# EAGLE library part FT2232H (library X893)
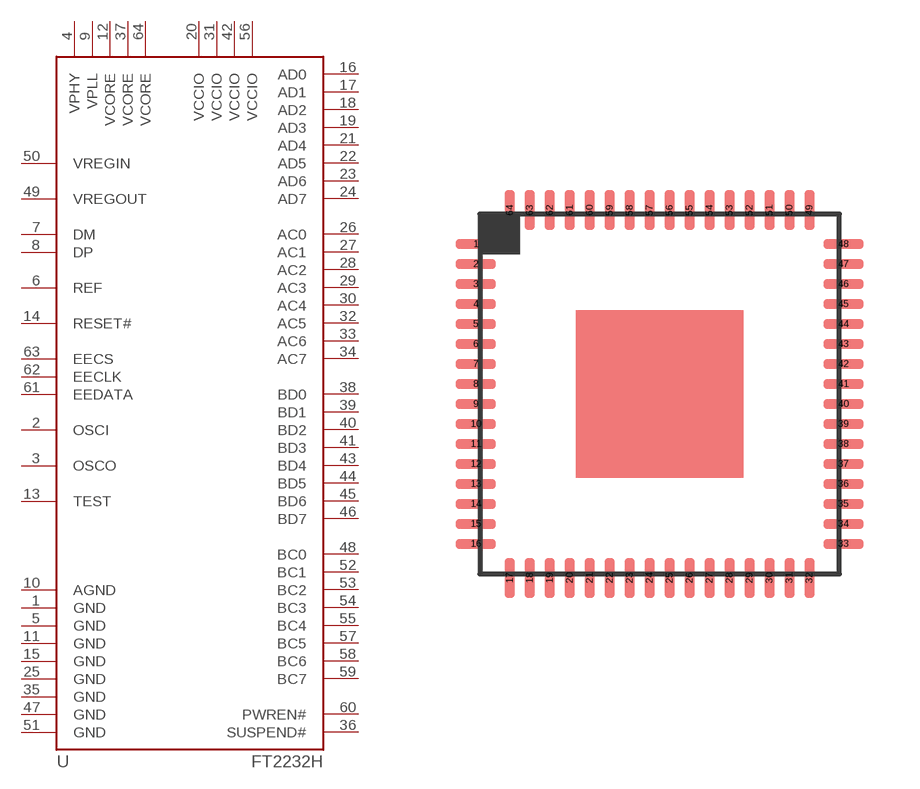
[diagram p100: symbol with the pads of QFN64-9X9; footprint QFN64-9X9]

Designator prefix -

## FT2232HQ  [QFN64-9X9]
1  GND
2  OSCI  in
3  OSCO  out
4  VPHY
5  GND
6  REF  in
7  DM  in
8  DP  in
9  VPLL
10  AGND
11  GND
12  VCORE
13  TEST  in
14  RESET#  in
15  GND
16  AD0
17  AD1
18  AD2
19  AD3
20  VCCIO
21  AD4
22  AD5
23  AD6
24  AD7
25  GND
26  AC0
27  AC1
28  AC2
29  AC3
30  AC4
31  VCCIO
32  AC5
33  AC6
34  AC7
35  GND
36  SUSPEND#  out
37  VCORE
38  BD0
39  BD1
40  BD2
41  BD3
42  VCCIO
43  BD4
44  BD5
45  BD6
46  BD7
47  GND
48  BC0
49  VREGOUT
50  VREGIN
51  GND
52  BC1
53  BC2
54  BC3
55  BC4
56  VCCIO
57  BC5
58  BC6
59  BC7
60  PWREN#  out
61  EEDATA
62  EECLK  out
63  EECS
64  VCORE

## Footprint QFN64-9X9 (pad centres in mm)
smd 1 x 0.25: 1 -4.6,3.75; 2 -4.6,3.25; 3 -4.6,2.75; 4 -4.6,2.25; 5 -4.6,1.75; 6 -4.6,1.25; 7 -4.6,0.75; 8 -4.6,0.25; 9 -4.6,-0.25; 10 -4.6,-0.75; 11 -4.6,-1.25; 12 -4.6,-1.75; 13 -4.6,-2.25; 14 -4.6,-2.75; 15 -4.6,-3.25; 16 -4.6,-3.75; 33 4.6,-3.75; 34 4.6,-3.25; 35 4.6,-2.75; 36 4.6,-2.25; 37 4.6,-1.75; 38 4.6,-1.25; 39 4.6,-0.75; 40 4.6,-0.25; 41 4.6,0.25; 42 4.6,0.75; 43 4.6,1.25; 44 4.6,1.75; 45 4.6,2.25; 46 4.6,2.75; 47 4.6,3.25; 48 4.6,3.75
smd 0.25 x 1: 17 -3.75,-4.6; 18 -3.25,-4.6; 19 -2.75,-4.6; 20 -2.25,-4.6; 21 -1.75,-4.6; 22 -1.25,-4.6; 23 -0.75,-4.6; 24 -0.25,-4.6; 25 0.25,-4.6; 26 0.75,-4.6; 27 1.25,-4.6; 28 1.75,-4.6; 29 2.25,-4.6; 30 2.75,-4.6; 31 3.25,-4.6; 32 3.75,-4.6; 49 3.75,4.6; 50 3.25,4.6; 51 2.75,4.6; 52 2.25,4.6; 53 1.75,4.6; 54 1.25,4.6; 55 0.75,4.6; 56 0.25,4.6; 57 -0.25,4.6; 58 -0.75,4.6; 59 -1.25,4.6; 60 -1.75,4.6; 61 -2.25,4.6; 62 -2.75,4.6; 63 -3.25,4.6; 64 -3.75,4.6